# Altium footprint library OLED_0.96-30P-P0.70-12864.PcbLib: 1 footprints
Each footprint in its own frame and in the unit in brackets; x right, y up, seen from the top. Pads: shape width x height; smd on the part's side, far side on the other; paste and mask are expansions set on the pad; w line width, h text height; cw(c..) or ccw(c..) is an arc to the next point about the centre after c.
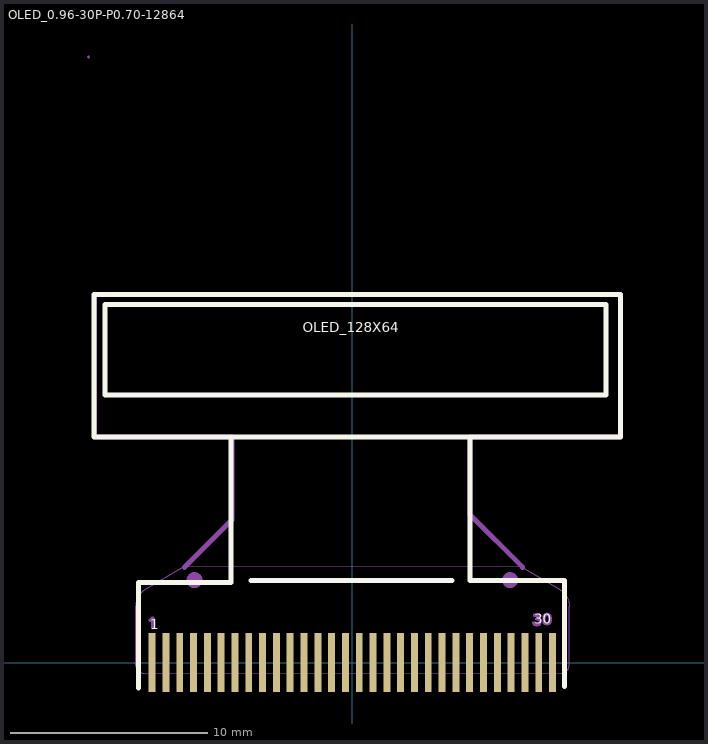
[diagram p0: the footprint, top view; thin cyan lines are the x and y axes]

## OLED_0.96-30P-P0.70-12864 [mm]
pads (30):
  rect 0.351x3 smd: 1(-10.15,0.002) 2(-9.45,0) 3(-8.75,0) 4(-8.05,0) 5(-7.35,0) 6(-6.65,0) 7(-5.95,0) 8(-5.25,0) 9(-4.55,0) 10(-3.85,0) 11(-3.15,0) 12(-2.45,0) 13(-1.75,0) 14(-1.05,0) 15(-0.35,0) 16(0.35,0) 17(1.05,0) 18(1.75,0) 19(2.45,0) 20(3.15,0) 21(3.85,0) 22(4.55,0) 23(5.25,0) 24(5.95,0) 25(6.65,0) 26(7.35,0) 27(8.05,0) 28(8.75,-0.001) 29(9.45,-0.002) 30(10.15,-0.002)
Top Overlay:
  lines w0.254: -10.848,-1.302 -10.848,4.06 -6.142,4.06 -6.142,11.43 ; -5.142,4.16 5.058,4.16 ; 5.958,11.36 5.958,4.16 10.752,4.16 10.752,-1.202 ; -13.1,11.44 13.6,11.44 13.6,18.669 -13.1,18.669 -13.1,11.44 ; -12.542,13.56 12.858,13.56 12.858,18.161 -12.542,18.161 -12.542,13.56
  text "1" at -10.25,1.7 h0.51
  text "30" at 9.23,1.96 h0.51
  text "OLED_128X64" at -2.515,16.747 h0.51
Mechanical 6:
  circle w0.4: c-8,4.18 r0.2
  circle w0.4: c8,4.18 r0.2
  region: -10.32,2.13 -10.28,2.08 -10.23,2.08 -10.19,2.09 -10.2,1.75 -10.12,1.68 -10.05,1.75 -10.05,2.27 -10.1,2.32 -10.17,2.31 -10.24,2.24 -10.31,2.2
  region: 10.024,1.945 9.924,1.885 9.824,1.885 9.734,1.925 9.664,2.005 9.644,2.125 9.644,2.275 9.664,2.375 9.734,2.485 9.864,2.525 9.854,2.365 9.824,2.345 9.804,2.315 9.784,2.235 9.784,2.175 9.804,2.085 9.834,2.045 9.874,2.035 9.914,2.045 9.934,2.075 9.954,2.175 9.954,2.225 9.934,2.315 9.914,2.355 9.864,2.375 9.874,2.525 9.954,2.505 10.014,2.475 10.074,2.395 10.114,2.255 10.104,2.135 10.084,2.025
  region: 9.16,2.38 9.2,2.33 9.34,2.33 9.28,2.23 9.28,2.18 9.32,2.14 9.4,2.13 9.42,2.13 9.44,2.09 9.44,2.06 9.42,2.02 9.39,2 9.36,1.98 9.31,1.99 9.27,2 9.25,2.06 9.2,2.08 9.13,2.06 9.11,2.02 9.14,1.93 9.21,1.87 9.29,1.84 9.39,1.84 9.49,1.87 9.56,1.94 9.58,2.02 9.59,2.12 9.56,2.21 9.51,2.25 9.49,2.27 9.55,2.35 9.57,2.4 9.55,2.45 9.51,2.48 9.21,2.48 9.16,2.43
  lines w0.254: -8.509,4.826 -6.096,7.239 -6.096,11.43 -13.081,11.43 -13.081,18.669 13.589,18.669 13.589,11.43 5.969,11.43 5.969,7.493 8.636,4.826
Mechanical 15:
  drawing of 49 lines, arcs and shapes, not listed